# Altium integrated library SDINBDG4-16G-I1.IntLib: 1 symbol
Pins are listed as number, name and electrical type; pins without a type are passive.

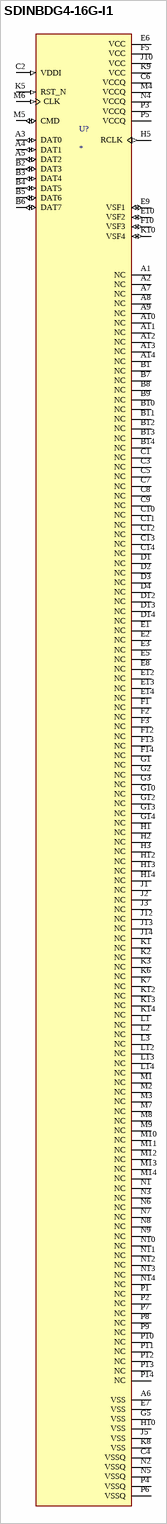
[diagram p0: symbol SDINBDG4-16G-I1]

## SDINBDG4-16G-I1
designator U?
Inand 7250 16gb Industrial Wide Temp -25c+85c Emmc5.1 Hs400; MP: SDINBDG4-16G-I1; MF: SanDisk; SnapEDA_Link: https://www.snapeda.com/parts/SDINBDG4-16G-I1/SanDisk/view-part/?ref=snap; Package: BGA-153 SanDisk; Check_prices: https://www.snapeda.com/parts/SDINBDG4-16G-I1/SanDisk/view-part/?ref=eda; Purchase-URL: https://pricing.snapeda.com/search/part/SDINBDG4-16G-I1/?ref=eda; Price: None; Value: *; Availability: In Stock
footprint BGA153N50P14X14_1300X1150X80
pins: A1 NC, A2 NC, A3 DAT0 (io), A4 DAT1 (io), A5 DAT2 (io), A6 VSS (power), A7 NC, A8 NC, A9 NC, A10 NC, A11 NC, A12 NC, A13 NC, A14 NC, B1 NC, B2 DAT3 (io), B3 DAT4 (io), B4 DAT5 (io), B5 DAT6 (io), B6 DAT7 (io), B7 NC, B8 NC, B9 NC, B10 NC, B11 NC, B12 NC, B13 NC, B14 NC, C1 NC, C2 VDDI (in), C3 NC, C4 VSSQ (power), C5 NC, C6 VCCQ (power), C7 NC, C8 NC, C9 NC, C10 NC, C11 NC, C12 NC, C13 NC, C14 NC, D1 NC, D2 NC, D3 NC, D4 NC, D12 NC, D13 NC, D14 NC, E1 NC, E2 NC, E3 NC, E5 NC, E6 VCC (power), E7 VSS (power), E8 NC, E9 VSF1 (io), E10 VSF2 (io), E12 NC, E13 NC, E14 NC, F1 NC, F2 NC, F3 NC, F5 VCC (power), F10 VSF3 (io), F12 NC, F13 NC, F14 NC, G1 NC, G2 NC, G3 NC, G5 VSS (power), G10 NC, G12 NC, G13 NC, G14 NC, H1 NC, H2 NC, H3 NC, H5 RCLK (out), H10 VSS (power), H12 NC, H13 NC, H14 NC, J1 NC, J2 NC, J3 NC, J5 VSS (power), J10 VCC (power), J12 NC, J13 NC, J14 NC, K1 NC, K2 NC, K3 NC, K5 RST_N (in), K6 NC, K7 NC, K8 VSS (power), K9 VCC (power), K10 VSF4 (io), K12 NC, K13 NC, K14 NC, L1 NC, L2 NC, L3 NC, L12 NC, L13 NC, L14 NC, M1 NC, M2 NC, M3 NC, M4 VCCQ (power), M5 CMD (io), M6 CLK (in), M7 NC, M8 NC, M9 NC, M10 NC, M11 NC, M12 NC, M13 NC, M14 NC, N1 NC, N2 VSSQ (power), N3 NC, N4 VCCQ (power), N5 VSSQ (power), N6 NC, N7 NC, N8 NC, N9 NC, N10 NC, N11 NC, N12 NC, N13 NC, N14 NC, P1 NC, P2 NC, P3 VCCQ (power), P4 VSSQ (power), P5 VCCQ (power), P6 VSSQ (power), P7 NC, P8 NC, P9 NC, P10 NC, P11 NC, P12 NC, P13 NC, P14 NC